# EAGLE library part ITS5215L (library infineon)
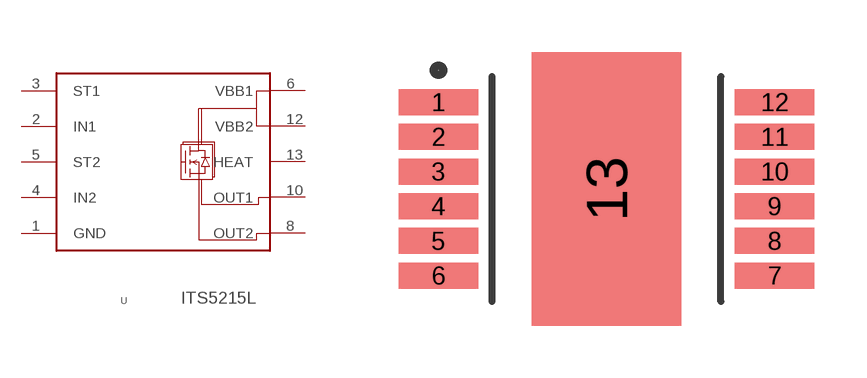
[diagram p5: symbol with the pads of INF-PG-DSO-12-11_M_1PRIMARY; footprint INF-PG-DSO-12-11_M_1PRIMARY]

Designator prefix -

## ITS5215L  [INF-PG-DSO-12-11_M_1PRIMARY]
1  GND
2  IN1
3  ST1
4  IN2
5  ST2
6  VBB1
8  OUT2
10  OUT1
12  VBB2
13  HEAT

## Footprint INF-PG-DSO-12-11_M_1PRIMARY (pad centres in mm)
Original name INF-PG-DSO-12-11_M
smd 2.3 x 0.75: 1 -4.85,2.5; 2 -4.85,1.5; 3 -4.85,0.5; 4 -4.85,-0.5; 5 -4.85,-1.5; 6 -4.85,-2.5; 7 4.85,-2.5; 8 4.85,-1.5; 9 4.85,-0.5; 10 4.85,0.5; 11 4.85,1.5; 12 4.85,2.5
smd 4.3 x 7.9: 13 0,0